# EAGLE library part MEMORY_HEADER20 (library Memory Breakout Board)
header with 20 pins
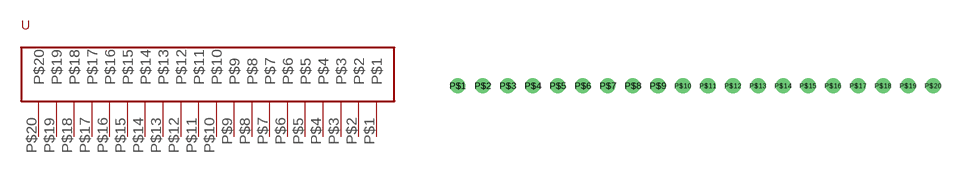
[diagram p0: symbol with the pads of MEMORY_HEADER20; footprint MEMORY_HEADER20]

Designator prefix -

## MEMORY_HEADER20  [MEMORY_HEADER20]
P$1  P$1
P$2  P$2
P$3  P$3
P$4  P$4
P$5  P$5
P$6  P$6
P$7  P$7
P$8  P$8
P$9  P$9
P$10  P$10
P$11  P$11
P$12  P$12
P$13  P$13
P$14  P$14
P$15  P$15
P$16  P$16
P$17  P$17
P$18  P$18
P$19  P$19
P$20  P$20

## Footprint MEMORY_HEADER20 (pad centres in mm)
drill 1.02: P$1 -2.54,2.54; P$2 0,2.54; P$3 2.54,2.54; P$4 5.08,2.54; P$5 7.62,2.54; P$6 10.16,2.54; P$7 12.7,2.54; P$8 15.24,2.54; P$9 17.78,2.54; P$10 20.32,2.54; P$11 22.86,2.54; P$12 25.4,2.54; P$13 27.94,2.54; P$14 30.48,2.54; P$15 33.02,2.54; P$16 35.56,2.54; P$17 38.1,2.54; P$18 40.64,2.54; P$19 43.18,2.54; P$20 45.72,2.54